# EAGLE library part TLV2252-Q1 (library texas-instruments.2)
Automotive Catalog Advanced LinCMOS(TM) Rail-to-Rail Very Low-Power Operational Amplifier
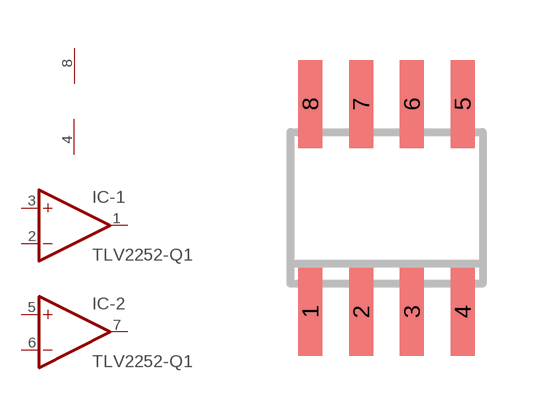
[diagram p4: symbol with the pads of SO08; footprint SO08]

Designator prefix IC; gates -1=OPAMP -2=OPAMP -PWR=PWR+-

## TLV2252-Q1  [SO08]
1  -1:OUT  out
2  -1:-IN  in
3  -1:+IN  in
4  -PWR:V-  pwr
5  -2:+IN  in
6  -2:-IN  in
7  -2:OUT  out
8  -PWR:V+  pwr

## Footprint SO08 (pad centres in mm)
Small Outline Package 8 NS Package M08A
smd 0.6 x 2.2: 1 -1.905,-2.6; 2 -0.635,-2.6; 3 0.635,-2.6; 4 1.905,-2.6; 5 1.905,2.6; 6 0.635,2.6; 7 -0.635,2.6; 8 -1.905,2.6